# EAGLE library part 1388BBMATRIX (library jason_eagle6)
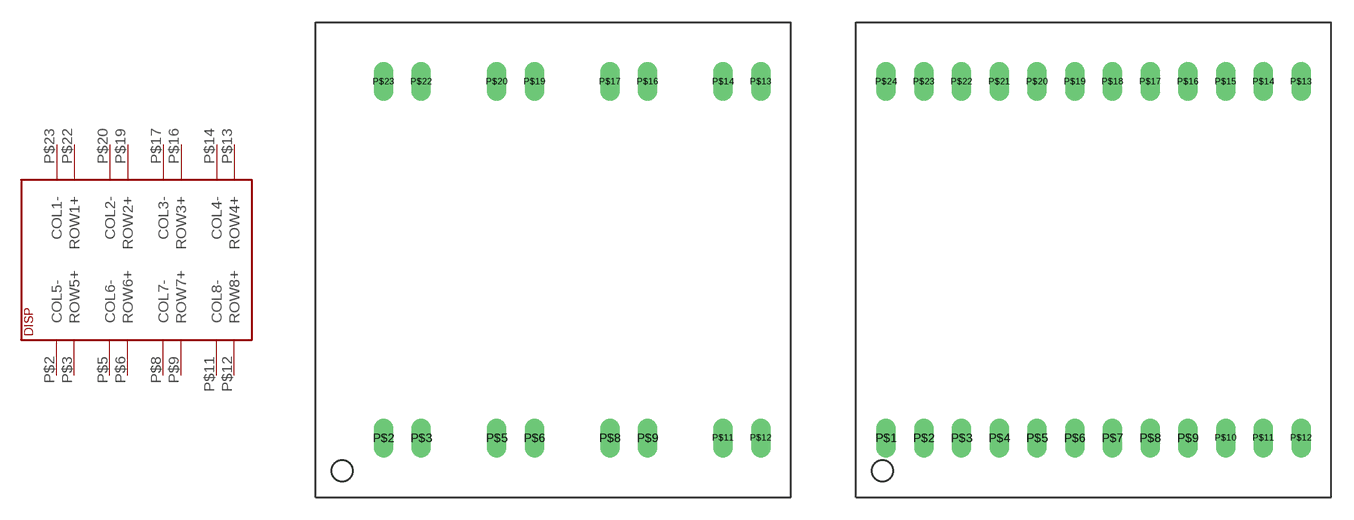
[diagram p12: symbol with the pads of 1388LEDMATRIX; footprints 1388LEDMATRIX, 1388_24PIN]

Designator prefix DISP

## 1388BBMATRIX  [1388LEDMATRIX]
P$2  COL5-
P$3  ROW5+
P$5  COL6-
P$6  ROW6+
P$8  COL7-
P$9  ROW7+
P$11  COL8-
P$12  ROW8+
P$13  ROW4+
P$14  COL4-
P$16  ROW3+
P$17  COL3-
P$19  ROW2+
P$20  COL2-
P$22  ROW1+
P$23  COL1-

## 1388BBMATRIX24PIN  [1388_24PIN]
Pads as for 1388LEDMATRIX

## Footprint 1388LEDMATRIX (pad centres in mm)
drill 0.8 long: P$2 -11.43,-12; P$3 -8.89,-12; P$5 -3.81,-12; P$6 -1.27,-12; P$8 3.81,-12; P$9 6.35,-12; P$11 11.43,-12; P$12 13.97,-12; P$13 13.97,12; P$14 11.43,12; P$16 6.35,12; P$17 3.81,12; P$19 -1.27,12; P$20 -3.81,12; P$22 -8.89,12; P$23 -11.43,12

## Footprint 1388_24PIN (pad centres in mm)
drill 0.8 long: P$1 -13.97,-12; P$2 -11.43,-12; P$3 -8.89,-12; P$4 -6.35,-12; P$5 -3.81,-12; P$6 -1.27,-12; P$7 1.27,-12; P$8 3.81,-12; P$9 6.35,-12; P$10 8.89,-12; P$11 11.43,-12; P$12 13.97,-12; P$13 13.97,12; P$14 11.43,12; P$15 8.89,12; P$16 6.35,12; P$17 3.81,12; P$18 1.27,12; P$19 -1.27,12; P$20 -3.81,12; P$21 -6.35,12; P$22 -8.89,12; P$23 -11.43,12; P$24 -13.97,12